# Altium footprint library fairchild-package.PcbLib: 12 footprints
Each footprint in its own frame and in the unit in brackets; x right, y up, seen from the top. Pads: shape width x height; smd on the part's side, far side on the other; paste and mask are expansions set on the pad; w line width, h text height; cw(c..) or ccw(c..) is an arc to the next point about the centre after c.
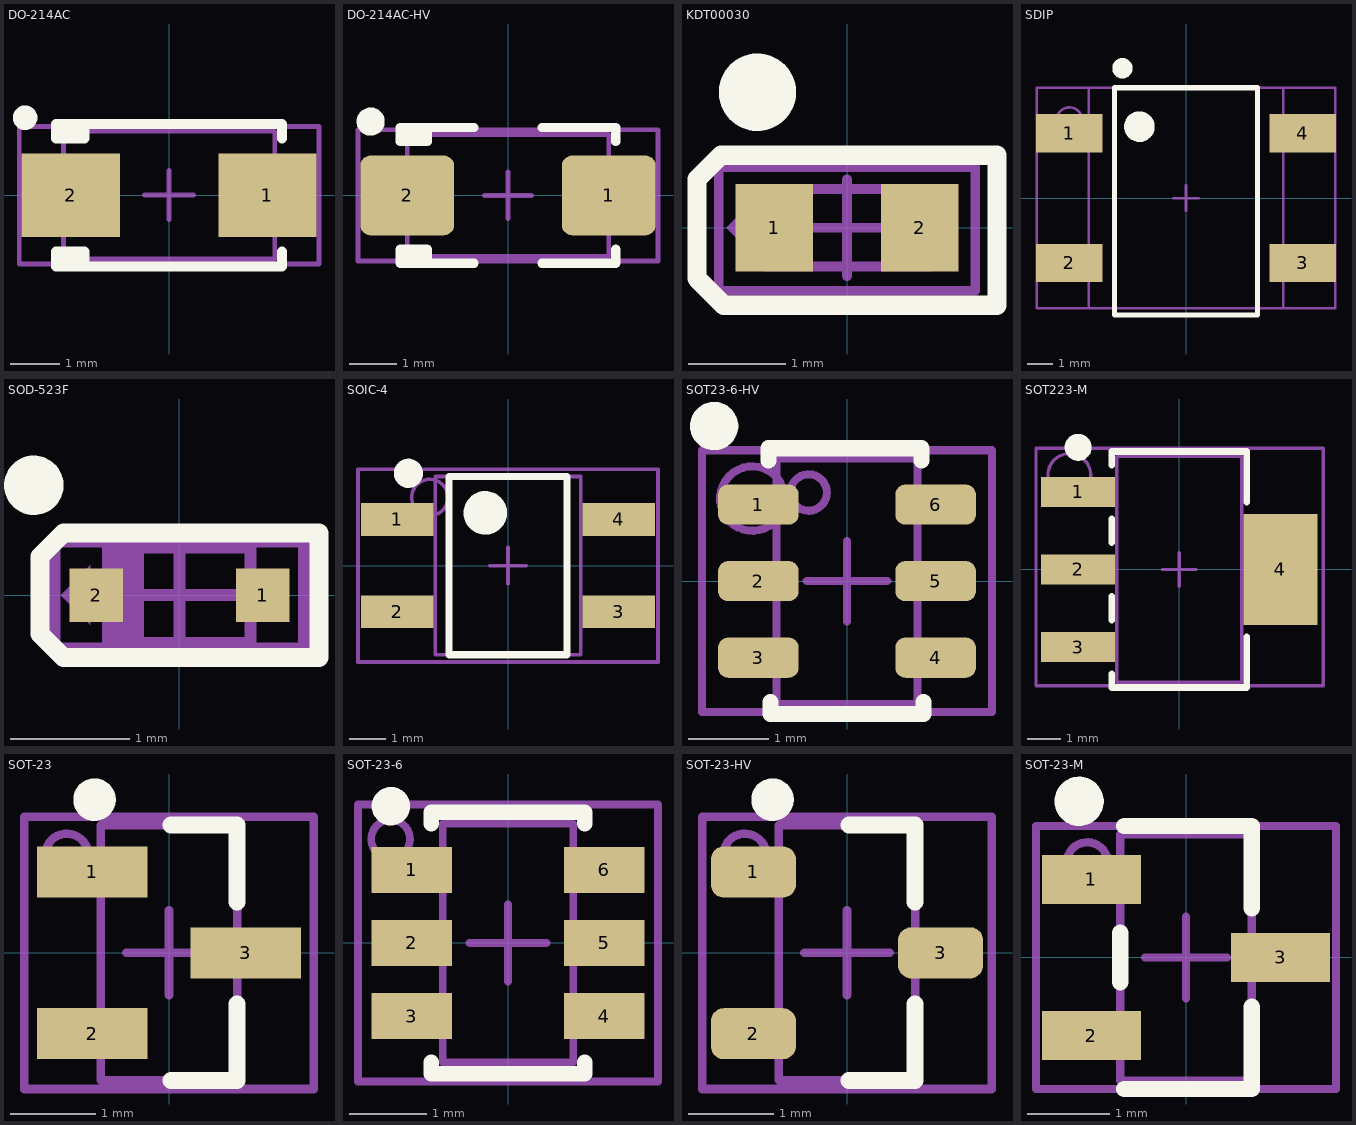
[diagram p0: the footprints below, top view; thin cyan lines are the x and y axes]

## DO-214AC [mm] "Molded Diode, 2-Leads, Body 4.3x2.6mm, IPC High Density"
height 2.15
pads (2):
  rect 2x1.7 smd: 1(2,0) 2(-2,0)
Top Overlay:
  circle w0.25: c-2.93,1.575 r0.125
  rectangle: -2.3,1.125 -1.725,1.45
  rectangle: -2.3,-1.45 -1.71,-1.125
  lines w0.2: -1.725,-1.45 -1.725,-1.15 -2.3,-1.15 -2.3,-1.45 2.3,-1.45 2.3,-1.15 ; -1.725,1.45 -1.725,1.15 -2.3,1.15 -2.3,1.45 2.3,1.45 2.3,1.15
Mechanical 13:
  lines w0.1: -0.5,0 0.5,0 ; 0,-0.5 0,0.5 ; -2.15,-1.3 2.15,-1.3 2.15,1.3 -2.15,1.3 -2.15,-1.3
Mechanical 15:
  region: -2.375,-0.325 -2.7,0 -2.375,0.325
  lines w0.1: -3.05,-1.4 3.05,-1.4 3.05,1.4 -3.05,1.4 -3.05,-1.4
  text ".Designator" at -0.875,-0.175 h0.5
3D body: height 2.3, standoff -0.1, extent -2.6,-1.3 2.6,1.3

## DO-214AC-HV [mm] "Molded Diode, 2-Leads, Body 4.3x2.6mm, IPC High Voltage"
height 2.15
pads (2):
  rrect25% 2x1.7 smd: 1(2.15,0) 2(-2.15,0)
Top Overlay:
  circle w0.3: c-2.93,1.575 r0.15
  rectangle: -2.3,-1.45 -1.71,-1.125
  rectangle: -2.3,1.125 -1.725,1.45
  lines w0.2: -1.725,-1.45 -1.725,-1.15 -2.3,-1.15 -2.3,-1.45 -0.725,-1.45 ; -1.725,1.45 -1.725,1.15 -2.3,1.15 -2.3,1.45 -0.725,1.45 ; 0.725,-1.45 2.3,-1.45 2.3,-1.15 ; 0.725,1.45 2.3,1.45 2.3,1.15
Mechanical 13:
  lines w0.1: -0.5,0 0.5,0 ; 0,-0.5 0,0.5 ; -2.15,-1.3 -2.15,1.3 2.15,1.3 2.15,-1.3 -2.15,-1.3
Mechanical 15:
  region: -2.4,-0.6 -3,0 -2.4,0.6
  lines w0.1: -3.2,-1.4 -3.2,1.4 3.2,1.4 3.2,-1.4 -3.2,-1.4
  text ".Designator" at -0.875,-0.175 h0.8
3D body: height 2.4, standoff 0, extent -2.6,-1.3 2.6,1.3

## KDT00030 [mm] "Photo Transistor"
height 0.6
pads (2):
  rect 0.8x0.9 smd: 1(-0.75,0) 2(0.75,0)
Top Overlay:
  circle w0.4: c-0.925,1.4 r0.2
  lines w0.2: -1.55,-0.525 -1.55,0.5 -1.3,0.75 1.55,0.75 1.55,-0.8 -1.275,-0.8 -1.55,-0.525
Mechanical 13:
  lines w0.1: -0.5,0 0.5,0 ; 0,-0.5 0,0.5 ; -0.85,-0.4 0.85,-0.4 0.85,0.4 -0.85,0.4 -0.85,-0.4
Mechanical 15:
  region: -0.925,-0.325 -1.25,0 -0.925,0.325
  lines w0.1: -1.325,-0.65 1.325,-0.65 1.325,0.625 -1.325,0.625 -1.325,-0.65
  text ".Designator" at -0.775,-0.275 h0.5
3D body: height 0.2, standoff 0, extent -0.85,-0.4 0.85,0.4
3D body: height 0.6, standoff 0.2, extent -0.6,-0.4 0.6,0.4

## SDIP [mm] "SOIC, 4-Leads, Body 4.9x4.0mm (max), Pitch 1.27mm, IPC Medium Density"
height 2.9
pads (4):
  rect 2.6x1.5 smd: 1(-4.572,2.54) 2(-4.572,-2.54) 3(4.572,-2.54) 4(4.572,2.54)
Top Overlay:
  circle w0.4: c-2.486,5.08 r0.2
  circle w0.6: c-1.824,2.794 r0.3
  lines w0.2: -2.794,-4.572 -2.794,4.318 2.794,4.318 2.794,-4.572 -2.794,-4.572
Mechanical 13:
  lines w0.1: -0.5,0 0.5,0 ; 0,-0.5 0,0.5 ; -3.81,-4.318 -3.81,4.318 3.81,4.318 3.81,-4.318 -3.81,-4.318
Mechanical 15:
  circle w0.1: c-4.564,3.048 r0.5
  lines w0.1: -5.842,-4.318 -5.842,4.318 5.842,4.318 5.842,-4.318 -5.842,-4.318
  text ".Designator" at 0.2,-2.125 h0.5
3D body: height 2.93, standoff 0, extent -5,-4.25 5,4.25

## SOD-523F [mm] "Molded Diode, 2-Leads - High Density"
height 0.7
pads (2):
  rect 0.45x0.45 smd: 1(0.7,0) 2(-0.7,0)
Top Overlay:
  circle w0.25: c-1.225,0.925 r0.125
  lines w0.16: -1.175,-0.325 -1.175,0.325 -0.975,0.525 1.175,0.525 1.175,-0.525 -0.975,-0.525 -1.175,-0.325
Mechanical 13:
  rectangle: -0.6,-0.4 -0.3,0.4
  lines w0.1: -0.5,0 0.5,0 ; 0,-0.5 0,0.5 ; -0.6,-0.4 0.6,-0.4 0.6,0.4 -0.6,0.4 -0.6,-0.4
Mechanical 15:
  region: -0.75,-0.25 -1,0 -0.75,0.25
  lines w0.1: -1.05,-0.45 1.05,-0.45 1.05,0.45 -1.05,0.45 -1.05,-0.45
  text ".Designator" at -0.875,-0.175 h0.5
3D body: height 0.7, standoff 0, extent -0.8,-0.399 0.8,0.399

## SOIC-4 [mm] "SOIC, 4-Leads, Body 4.9x4.0mm (max), Pitch 1.27mm, IPC Medium Density"
height 2.9
pads (4):
  rect 2x0.9 smd: 1(-3.048,1.27) 2(-3.048,-1.27) 3(3.048,-1.27) 4(3.048,1.27)
Top Overlay:
  circle w0.4: c-2.74,2.54 r0.2
  circle w0.6: c-0.625,1.45 r0.3
  lines w0.2: -1.625,-2.45 -1.625,2.45 1.625,2.45 1.625,-2.45 -1.625,-2.45
Mechanical 13:
  lines w0.1: -0.5,0 0.5,0 ; 0,-0.5 0,0.5 ; -2,-2.45 -2,2.45 2,2.45 2,-2.45 -2,-2.45
Mechanical 15:
  circle w0.1: c-2.15,1.875 r0.5
  lines w0.1: -4.125,-2.65 -4.125,2.65 4.125,2.65 4.125,-2.65 -4.125,-2.65
  text ".Designator" at 0.2,-2.125 h0.5
3D body: height 2.9, standoff 0, extent -3.343,-2.475 3.343,2.475

## SOT23-6-HV [mm] "SOT23, 6-Leads, Body 3.0x3.0mm (max), Pitch 0.95mm, IPC High Voltage"
height 1.45
pads (6):
  rrect50% 1x0.5 smd: 1(-1.1,0.95) 2(-1.1,0) 3(-1.1,-0.95) 4(1.1,-0.95) 5(1.1,0) 6(1.1,0.95)
Top Overlay:
  circle w0.3: c-1.65,1.925 r0.15
  lines w0.2: -0.975,1.5 -0.975,1.65 0.925,1.65 0.925,1.5 ; -0.95,-1.5 -0.95,-1.65 0.95,-1.65 0.95,-1.5
Mechanical 13:
  circle w0.1: c-0.476,1.1 r0.226
  lines w0.1: -0.9,1.525 0.85,1.525 ; -0.5,0 0.5,0 ; 0,-0.5 0,0.5 ; -0.875,-1.525 -0.875,1.525 0.875,1.525 0.875,-1.525 -0.875,-1.525
Mechanical 15:
  circle w0.1: c-1.175,1.025 r0.4
  lines w0.1: -1.8,-1.625 -1.8,1.625 1.8,1.625 1.8,-1.625 -1.8,-1.625
  text ".Designator" at -0.25,1.125 h0.5
3D body: height 1, standoff 0, extent -1.17,-1.46 1.17,1.46

## SOT223-M [mm] "SOT223, 4-Leads, Body 6.7x7.3mm (max), Pitch 2.30mm, IPC Medium Density"
height 1.8
pads (4):
  rect 2.2x0.9 smd: 1(-3,2.3) 2(-3,0) 3(-3,-2.3)
  rect 2.2x3.3 smd: 4(3,0)
Top Overlay:
  circle w0.4: c-3,3.625 r0.2
  lines w0.2: -2,-3.1 -2,-3.5 2,-3.5 2,-2 ; -2,-1.5 -2,-0.8 ; -2,0.8 -2,1.5 ; -2,3.1 -2,3.5 2,3.5 2,2
Mechanical 13:
  lines w0.1: -0.5,0 0.5,0 ; 0,-0.5 0,0.5 ; -1.85,-3.35 -1.85,3.35 1.85,3.35 1.85,-3.35 -1.85,-3.35
Mechanical 15:
  circle w0.1: c-3.261,2.8 r0.636
  lines w0.1: -4.25,-3.45 -4.25,3.6 4.275,3.6 4.275,-3.45 -4.25,-3.45
  text ".Designator" at -0.1,2.6 h0.5
3D body: height 1.66, standoff -0.02, extent -3.48,-3.25 3.48,3.25

## SOT-23 [mm] "SOT23, 3-Leads, Body 3.0x2.8mm (max), Pitch 0.95mm, IPC High Density"
height 1.4
pads (3):
  rect 1.3x0.6 smd: 1(-0.9,0.95) 2(-0.9,-0.95) 3(0.9,0)
Top Overlay:
  circle w0.25: c-0.875,1.8 r0.125
  lines w0.2: 0.025,-1.5 0.8,-1.5 0.8,-0.6 ; 0.025,1.5 0.8,1.5 0.8,0.6
Mechanical 13:
  lines w0.1: -0.5,0 0.5,0 ; 0,-0.5 0,0.5 ; -0.8,-1.5 -0.8,1.5 0.8,1.5 0.8,-1.5 -0.8,-1.5
Mechanical 15:
  circle w0.1: c-1.201,1.15 r0.251
  lines w0.1: -1.7,-1.6 -1.7,1.6 1.7,1.6 1.7,-1.6 -1.7,-1.6
  text ".Designator" at -0.2,1.325 h0.5
3D body: height 1.02, standoff 0.02, extent -1.17,-1.46 1.17,1.46

## SOT-23-6 [mm] "6-Lead Plastic Small Outline Transistor - Medium Density"
height 1.45
pads (6):
  rect 1.05x0.6 smd: 1(-1.25,0.95) 2(-1.25,0) 3(-1.25,-0.95) 4(1.25,-0.95) 5(1.25,0) 6(1.25,0.95)
Top Overlay:
  circle w0.25: c-1.522,1.778 r0.125
  lines w0.2: -1,-1.55 -1,-1.7 1,-1.7 1,-1.55 ; -1,1.55 -1,1.7 1,1.7 1,1.55
Mechanical 13:
  lines w0.1: -0.5,0 0.5,0 ; 0,-0.5 0,0.5 ; -0.85,-1.55 -0.85,1.55 0.85,1.55 0.85,-1.55 -0.85,-1.55
Mechanical 15:
  circle w0.1: c-1.526,1.35 r0.251
  lines w0.1: -1.95,-1.8 -1.95,1.8 1.95,1.8 1.95,-1.8 -1.95,-1.8
  text ".Designator" at -0.2,1.275 h0.5
3D body: height 1, standoff 0, extent -1.17,-1.46 1.17,1.46

## SOT-23-HV [mm] "SOT23, 3-Leads, Body 3.0x2.8mm (max), Pitch 0.95mm, IPC High Density"
height 1.4
pads (3):
  rrect50% 1x0.6 smd: 1(-1.1,0.95) 2(-1.1,-0.95) 3(1.1,0)
Top Overlay:
  circle w0.25: c-0.875,1.8 r0.125
  lines w0.2: 0.025,-1.5 0.8,-1.5 0.8,-0.6 ; 0.025,1.5 0.8,1.5 0.8,0.6
Mechanical 13:
  lines w0.1: -0.5,0 0.5,0 ; 0,-0.5 0,0.5 ; -0.8,-1.5 0.8,-1.5 0.8,1.5 -0.8,1.5 -0.8,-1.5
Mechanical 15:
  circle w0.1: c-1.201,1.15 r0.251
  lines w0.1: -1.7,-1.6 1.7,-1.6 1.7,1.6 -1.7,1.6 -1.7,-1.6
  text ".Designator" at -0.2,1.325 h0.5
3D body: height 1.02, standoff 0.02, extent -1.17,-1.46 1.17,1.46

## SOT-23-M [mm] "SOT23, 3-Leads, Body 3.0x2.8mm (max), Pitch 0.95mm, Medium Density"
height 1.4
pads (3):
  rect 1.2x0.6 smd: 1(-1.15,0.95) 2(-1.15,-0.95) 3(1.15,0)
Top Overlay:
  circle w0.3: c-1.3,1.9 r0.15
  lines w0.2: -0.8,-0.3 -0.8,0.3 ; -0.75,-1.6 0.8,-1.6 0.8,-0.6 ; -0.75,1.6 0.8,1.6 0.8,0.6
Mechanical 13:
  lines w0.1: -0.5,0 0.5,0 ; 0,-0.5 0,0.5 ; -0.8,-1.5 -0.8,1.5 0.8,1.5 0.8,-1.5 -0.8,-1.5
Mechanical 15:
  circle w0.1: c-1.201,1.15 r0.251
  lines w0.1: -1.825,-1.6 -1.825,1.6 1.825,1.6 1.825,-1.6 -1.825,-1.6
  text ".Designator" at -0.2,1.325 h0.5
3D body: height 1.02, standoff 0.02, extent -1.17,-1.46 1.17,1.46